# Altium schematic symbol library BTS50055-1TMA.SchLib: 1 symbol
Pins are listed as number, name and electrical type; pins without a type are passive.

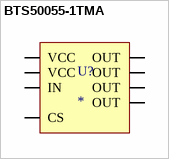
[diagram p0: symbol BTS50055-1TMA]

## BTS50055-1TMA
designator U?
pins: 1 OUT, 2 OUT, 3 IN, 4 VCC, 5 CS, 6 OUT, 7 OUT, 8 VCC